# EAGLE library part 9AXIS_MODULE (library micromouse)
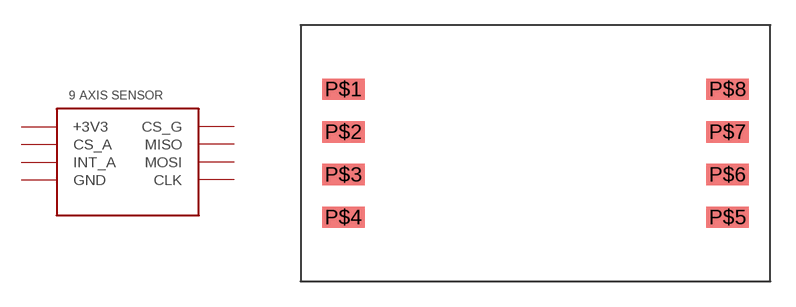
[diagram p7: symbol with the pads of 9AXIS_SENSOR_MODULE; footprint 9AXIS_SENSOR_MODULE]

Designator prefix -

## 9AXIS_MODULE  [9AXIS_SENSOR_MODULE]
P$1  +3V3  out
P$2  CS_A  pwr
P$3  INT_A  pwr
P$4  GND  in
P$5  CLK  in
P$6  MOSI  in
P$7  MISO  in
P$8  CS_G  out

## Footprint 9AXIS_SENSOR_MODULE (pad centres in mm)
smd 2.54 x 1.27: P$1 -11.43,3.81; P$2 -11.43,1.27; P$3 -11.43,-1.27; P$4 -11.43,-3.81; P$5 11.43,-3.81; P$6 11.43,-1.27; P$7 11.43,1.27; P$8 11.43,3.81